# EAGLE library part APCI0105-P001A (library APCI0105-P001A)
M.2 0.5mm Surface Mount Right Angle SMD,P=0.5mm,Surface Mount Right Angle Card Edge Connectors ROHS Source: Datasheet <https://wmsc.lcsc.com/wmsc/upload/file/pdf/v2/lcsc/2010161204_LOTES-APCI0105-P001A_C841658.pdf>
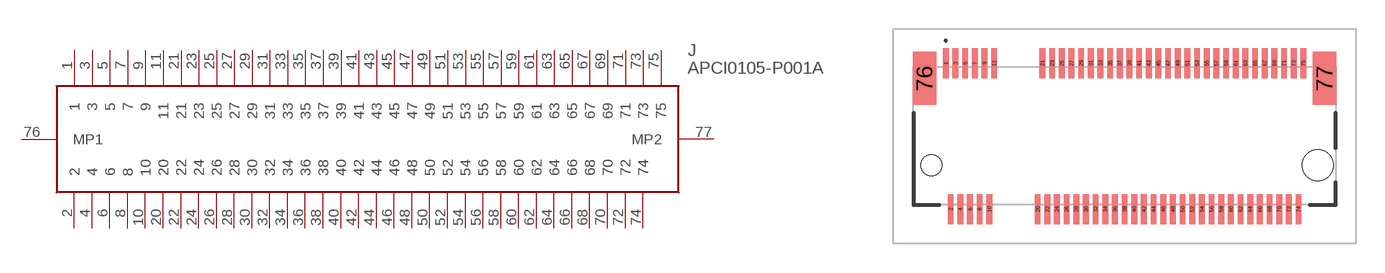
[diagram p0: symbol with the pads of APCI0105P001A; footprint APCI0105P001A]

Designator prefix J

## APCI0105-P001A (Description: M.2 0.5mm Surface Mount Right Angle SMD,P=0.5mm,Surface Mount Right Angle Card Edge Connectors ROHS; Height: 4.2mm; Manufacturer_Name: LOTES; Manufacturer_Part_Number: APCI0105-P001A)  [APCI0105P001A]
1  1
2  2
3  3
4  4
5  5
6  6
7  7
8  8
9  9
10  10
11  11
20  20
21  21
22  22
23  23
24  24
25  25
26  26
27  27
28  28
29  29
30  30
31  31
32  32
33  33
34  34
35  35
36  36
37  37
38  38
39  39
40  40
41  41
42  42
43  43
44  44
45  45
46  46
47  47
48  48
49  49
50  50
51  51
52  52
53  53
54  54
55  55
56  56
57  57
58  58
59  59
60  60
61  61
62  62
63  63
64  64
65  65
66  66
67  67
68  68
69  69
70  70
71  71
72  72
73  73
74  74
75  75
76  MP1
77  MP2

## Footprint APCI0105P001A (pad centres in mm)
APCI0105-P001A-2
smd 0.3 x 1.55: 1 -9.25,3.775; 2 -9,-3.775; 3 -8.75,3.775; 4 -8.5,-3.775; 5 -8.25,3.775; 6 -8,-3.775; 7 -7.75,3.775; 8 -7.5,-3.775; 9 -7.25,3.775; 10 -7,-3.775; 11 -6.75,3.775; 20 -4.5,-3.775; 21 -4.25,3.775; 22 -4,-3.775; 23 -3.75,3.775; 24 -3.5,-3.775; 25 -3.25,3.775; 26 -3,-3.775; 27 -2.75,3.775; 28 -2.5,-3.775; 29 -2.25,3.775; 30 -2,-3.775; 31 -1.75,3.775; 32 -1.5,-3.775; 33 -1.25,3.775; 34 -1,-3.775; 35 -0.75,3.775; 36 -0.5,-3.775; 37 -0.25,3.775; 38 0,-3.775; 39 0.25,3.775; 40 0.5,-3.775; 41 0.75,3.775; 42 1,-3.775; 43 1.25,3.775; 44 1.5,-3.775; 45 1.75,3.775; 46 2,-3.775; 47 2.25,3.775; 48 2.5,-3.775; 49 2.75,3.775; 50 3,-3.775; 51 3.25,3.775; 52 3.5,-3.775; 53 3.75,3.775; 54 4,-3.775; 55 4.25,3.775; 56 4.5,-3.775; 57 4.75,3.775; 58 5,-3.775; 59 5.25,3.775; 60 5.5,-3.775; 61 5.75,3.775; 62 6,-3.775; 63 6.25,3.775; 64 6.5,-3.775; 65 6.75,3.775; 66 7,-3.775; 67 7.25,3.775; 68 7.5,-3.775; 69 7.75,3.775; 70 8,-3.775; 71 8.25,3.775; 72 8.5,-3.775; 73 8.75,3.775; 74 9,-3.775; 75 9.25,3.775
smd 1.2 x 2.75: 76 -10.35,3; 77 10.35,3
hole 1.1 at -10,-1.5
hole 1.6 at 10,-1.5